# Altium schematic symbol library SchlibLafe.SchLib: 392 symbols (part 1 of 3)
Pins are listed as number, name and electrical type; pins without a type are passive.

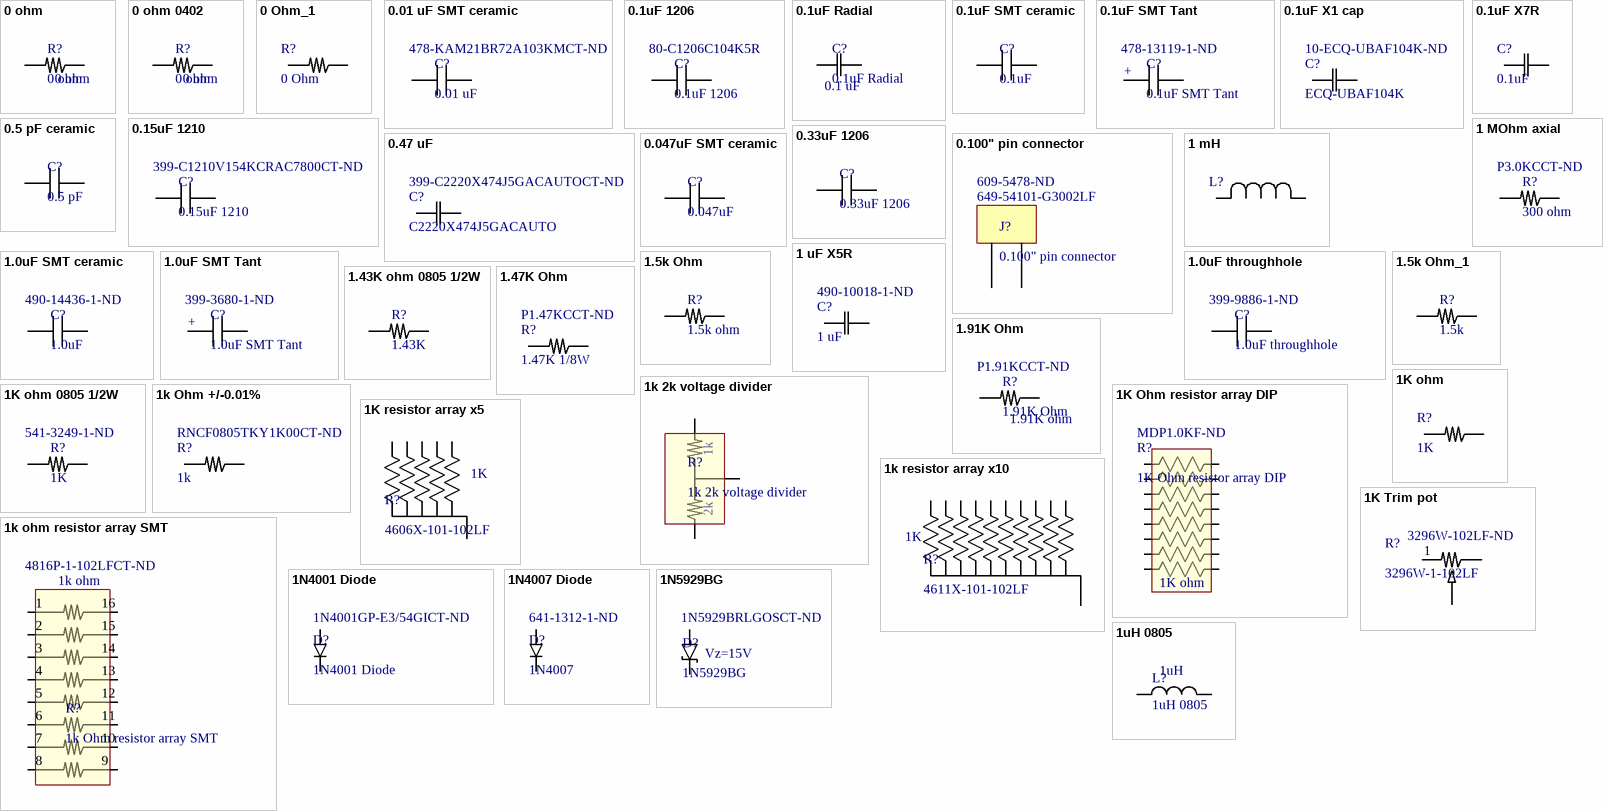
[diagram p0: symbols 0 ohm to 1uH 0805]

## 0 ohm
designator R?
Resistor 0 Ohm 0805; Supplier 1: Digi-Key; Supplier Part Number 1: 541-2827-1-ND
footprint 6-0805 (Chip Resistor; Body 2 x 1.2 mm (LxW typ))
pins: 1, 2

## 0 ohm 0402
designator R?, comment 0 ohm
Resistor 0 Ohm 0402
footprint 0402R-GENERIC
pins: 1, 2

## 0 Ohm_1
designator R?, comment 0 Ohm
0 Ohms Jumper Chip Resistor 0402 (1005 Metric) Automotive AEC-Q200 Thick Film; Mfr_Name: Panasonic; Manufacturer_Part_Number: ERJ-2GE0R00X; Desc_Value: RES SMD 0 OHM JUMPER 1/10W 0402; Notes: DNP; Copyright: Copyright (C) 2023 Ultra Librarian. All rights reserved.; RefDes: RefDes; Type: DEV; Supplier 1: Mouser; Supplier Part Number 1: 667-ERJ-2GE0R00X; Vendor URL: https://www.digikey.com/en/products/detail/panasonic-electronic-components/ERJ-2GE0R00X/146727; Package: 0402; Mounting Type: SMT
footprint 0402 - resistor
pins: 1, 2

## 0.01 uF SMT ceramic
designator C?, comment 0.01 uF  Supplier Part Number 1: 478-KAM21BR72A103KMCT-ND
CAP CER 10000PF 100V X7R 0805; Supplier 1: Digi-Key
footprint 6-0805 (Chip Resistor; Body 2 x 1.2 mm (LxW typ))
pins: 1, 2

## 0.1uF 1206
designator C?  Supplier Part Number 1: 80-C1206C104K5R
Multilayer Ceramic Capacitors MLCC - SMD/SMT 50V 0.1uF X7R 1206 10%; Supplier 1: Mouser
footprint 1206C-GENERIC
pins: 1, 2

## 0.1uF Radial
designator C?  value 0.1 uF
CAP CER 0.1UF 50V X7R RADIAL; Supplier 1: Digi-Key; Supplier Part Number 1: BC1084CT-ND
footprint thruhole cap 0.100"
pins: 1, 2

## 0.1uF SMT ceramic
designator C?, comment 0.1uF
CAP CER 0.1UF 100V X7R 0805; Supplier 1: Digi-Key; Supplier Part Number 1: 490-14408-1-ND
footprint 6-0805 (Chip Resistor; Body 2 x 1.2 mm (LxW typ))
pins: 1, 2

## 0.1uF SMT Tant
designator C?  Supplier Part Number 1: 478-13119-1-ND
CAP TANT 0.1UF 20% 35V 1206; Supplier 1: Digi-Key
footprint 8-1206 - Tant (Chip Resistor; Body 3.1 x 1.6 mm (LxW typ))
pins: 1, 2
text: +

## 0.1uF X1 cap
designator C?, comment ECQ-UBAF104K  Supplier Part Number 1: 10-ECQ-UBAF104K-ND
CAP FILM 0.1UF 10% 300VAC RADIAL; Mfr_Name: Panasonic; Type: DEV; Copyright: Copyright (C) 2023 Ultra Librarian. All rights reserved.; Manufacturer_Part_Number: ECQ-UBAF104K; RefDes: RefDes; Supplier 1: Digi-Key
footprint CAP_ECQUB_STRAIGHT_18.5LX08.0TX16.5H_PAN
pins: 1, 2

## 0.1uF X7R
designator C?, comment 0.1uF
0.1 µF ±10% 50V Ceramic Capacitor X7R 0402 (1005 Metric)Low ESR / C1005X7R1H104K050BB; Mfr_Name: TDK Corporation; Type: DEV; Desc_Value: CAP CER 0.1UF 50V X7R 0402; Manufacturer_Part_Number: C1005X7R1H104K050BB; RefDes: RefDes; Supplier 1: Mouser; Supplier 2: Digi-Key; Supplier Part Number 1: 810-C1005X7R1H104K; Supplier Part Number 2: 445-5932-1-ND; Copyright: Copyright (C) 2023 Ultra Librarian. All rights reserved.; Vendor URL: https://www.digikey.com/en/products/detail/tdk-corporation/C1005X7R1H104K050BB/2443410; Package: 0402; Mounting Type: SMT
footprint 0402 - cap (0402 footprint)
pins: 1, 2

## 0.5 pF ceramic
designator C?, comment 0.5 pF
0.5 pF 50V Ceramic Capacitor 0603 (1608 Metric); Supplier 1: DigiKey; Supplier Part Number 1: 1761-P62CF0R5B5STCT-ND
footprint 3-0603 (Chip Resistor; Body 1.6 x 0.9 mm (LxW typ))
pins: 1, 2

## 0.15uF 1210
designator C?  Supplier Part Number 1: 399-C1210V154KCRAC7800CT-ND
CAP CER 0.15UF 500V X7R 1210; Supplier 1: Digi-Key
footprint 1210-GENERIC
pins: 1, 2

## 0.33uF 1206
designator C?
CAP CER 0.33UF 100V X7R 1206; Supplier 1: Digi-Key; Supplier Part Number 1: 445-4464-1-ND
footprint 1206C-GENERIC
pins: 1, 2

## 0.47 uF
designator C?, comment C2220X474J5GACAUTO  Supplier Part Number 1: 399-C2220X474J5GACAUTOCT-ND
0.47 µF ±5% 50V Ceramic Capacitor C0G, NP0 2220 (5750 Metric); Mfr_Name: Kemet; Type: DEV; Desc_Value: CAP CER 0.47UF 50V C0G/NP0 2220; Copyright: Copyright (C) 2023 Ultra Librarian. All rights reserved.; Manufacturer_Part_Number: C2220X474J5GACAUTO; RefDes: RefDes; Supplier 1: Digi-Key; Vendor URL: https://www.digikey.com/en/products/detail/kemet/C2220X474J5GACAUTO/11676827; Package: 2220; Mounting Type: SMT
footprint CAPC665540_185N_KEM
pins: 1, 2

## 0.047uF SMT ceramic
designator C?, comment 0.047uF
CAP CER 0.047UF 100V X7R 0805; Supplier 1: Digi-Key; Supplier Part Number 1: 1276-6815-1-ND
footprint 6-0805 (Chip Resistor; Body 2 x 1.2 mm (LxW typ))
pins: 1, 2

## 0.100" pin connector
designator J?  Supplier Part Number 1: 649-54101-G3002LF  Supplier Part Number 2: 609-5478-ND
CONN HEADER VERT 2POS 2.54MM; Supplier 1: Mouser; Supplier 2: Digi-Key
footprint 2-pin 0.100" (2-pin connector)
pins: 1 (power), 2 (power)

## 1 mH
designator L?
1 mH Unshielded Drum Core, Wirewound Inductor 100 mA 13Ohm 1210 (3225 Metric); Mfr_Name: Vishay; Manufacturer_Part_Number: IHLP2020CZER3R3M01; Type: DEV; Copyright: Copyright (C) 2023 Ultra Librarian. All rights reserved.; Digi-Key_Part_Number_1: 541-1269-1-ND; Digi-Key_Part_Number_2: 541-1269-2-ND; Digi-Key_Part_Number_3: 541-1269-6-ND; RefDes: RefDes; Supplier 1: Digi-Key; Supplier Part Number 1: 587-3214-1-ND
footprint 1210-GENERIC
pins: 1, 2

## 1 MOhm axial
designator R?, comment 300 ohm  Supplier Part Number 1: P3.0KCCT-ND
RES 1 MOHM 5% 1/8W axial; Supplier 1: Digi-Key
footprint thruhole_resistor
pins: 1, 2

## 1 uF X5R
designator C?, comment 1 uF  Supplier Part Number 1: 490-10018-1-ND
1 µF ±20% 25V Ceramic Capacitor X5R 0402 (1005 Metric); Mfr_Name: Murata; Manufacturer_Part_Number: GRM155R61E105MA12D; Type: DEV; Desc_Value: CAP CER 1UF 25V X5R 0402; Copyright: Copyright (C) 2023 Ultra Librarian. All rights reserved.; RefDes: RefDes; Vendor URL: https://www.digikey.com/en/products/detail/murata-electronics/GRM155R61E105MA12D/4905141; Package: 0402; Mounting Type: SMT; Supplier 1: Digi-Key
footprint 0402 - cap (0402 footprint)
pins: 1, 2

## 1.0uF SMT ceramic
designator C?, comment 1.0uF  Supplier Part Number 1: 490-14436-1-ND
CAP CER 1UF 100V X7S 0805; Supplier 1: Digi-Key
footprint 6-0805 (Chip Resistor; Body 2 x 1.2 mm (LxW typ))
pins: 1, 2

## 1.0uF SMT Tant
designator C?  Supplier Part Number 1: 399-3680-1-ND
CAP TANT 1UF 10% 25V 1206; Supplier 1: Digi-Key
footprint 8-1206 - Tant (Chip Resistor; Body 3.1 x 1.6 mm (LxW typ))
pins: 1, 2
text: +

## 1.0uF throughhole
designator C?  Supplier Part Number 1: 399-9886-1-ND
1 µF ±10% 50V Ceramic Capacitor X7R Radial; Supplier 1: Digi-Key
footprint throughhole0.225" (0.255" wide, 0.045" hole diameter)
pins: 1, 2

## 1.5k Ohm
designator R?, comment 1.5k ohm
RES SMD 1.5K OHM 0.5% 1/8W 0805; Supplier 1: Digi-Key; Supplier Part Number 1: RMCF0805FT1K50CT-ND
footprint 6-0805 (Chip Resistor; Body 2 x 1.2 mm (LxW typ))
pins: 1, 2

## 1.5k Ohm_1
designator R?, comment 1.5k
1.5 kOhms ±1% 0.1W, 1/10W Chip Resistor 0402 (1005 Metric) Automotive AEC-Q200 Thick Film; Manufacturer_Part_Number: ERJ2RKF1501X; Mfr_name: Panasonic Electronic Components; MF: {'manufacturer': u'Panasonic Electronic'}; Desc_Value: RES SMD 1.5K OHM 1% 1/10W 0402; Package: 0402; Price: None; Value: *; Availability: Unavailable; Supplier 1: Mouser; Supplier Part Number 1: 667-ERJ-2RKF1501X; Vendor URL: https://www.digikey.com/en/products/detail/panasonic-electronic-components/ERJ-2RKF1501X/192060; Mounting Type: SMT
footprint RES_ERJ2RKF1501X
pins: 1, 2

## 1.43K ohm 0805 1/2W
designator R?, comment 1.43K
RES SMD 1.43K OHM 0.5% 1/4W 0805; Supplier 1: Digi-Key; Supplier Part Number 1: P21035CT-ND
footprint 6-0805 (Chip Resistor; Body 2 x 1.2 mm (LxW typ))
pins: 1, 2

## 1.47K Ohm
designator R?, comment 1.47K 1/8W  Supplier Part Number 1: P1.47KCCT-ND
RES SMD 1.47K OHM 1% 1/8W 0805; Manufacturer_Part_Number: RNCP0805FTD1K00; Vendor: Stackpole International; Built_By: EMA_UL_Team; Copyright: Copyright (C) 2018 Accelerated Designs. All rights reserved; RefDes: RefDes; Type: DEV; Value: Value; Supplier 1: Digi-Key
footprint 6-0805 (Chip Resistor; Body 2 x 1.2 mm (LxW typ))
pins: 1, 2

## 1.91K Ohm
designator R?  Supplier Part Number 1: P1.91KCCT-ND
RES SMD 1.91K OHM 1% 1/8W 0805; Supplier 1: Digi-Key
footprint 6-0805 (Chip Resistor; Body 2 x 1.2 mm (LxW typ))
pins: 1, 2
text: 1.91K ohm

## 1k 2k voltage divider
designator R?
1k, 2k Ohm ±0.1% 100mW Power Per Element Voltage Divider 2 Resistor Network/Array ±25ppm/°C TO-236-3, SC-59, SOT-23-3; Supplier 1: Digi-Key; Supplier Part Number 1: MPMT-1K/2KCT-ND
footprint SOT23-123
pins: 1, 1, 2, 2, 3
text: 1k; 2k

## 1K ohm
designator R?, comment 1K
RES 1K OHM 1% 1/4W 0805; Manufacturer_Part_Number: RNCP0805FTD1K00; Vendor: Stackpole International; Built_By: EMA_UL_Team; Copyright: Copyright (C) 2018 Accelerated Designs. All rights reserved; RefDes: RefDes; Type: DEV; Value: Value; Supplier 1: Digi-Key; Supplier Part Number 1: RNCP0805FTD1K00CT-ND
footprint 6-0805 (Chip Resistor; Body 2 x 1.2 mm (LxW typ))
pins: 1, 2

## 1K ohm 0805 1/2W
designator R?, comment 1K  Supplier Part Number 1: 541-3249-1-ND
RES 1K OHM 1% 1/2W 0805; Supplier 1: Digi-Key
footprint 6-0805 (Chip Resistor; Body 2 x 1.2 mm (LxW typ))
pins: 1, 2

## 1k Ohm +/-0.01%
designator R?, comment 1k  Supplier Part Number 1: RNCF0805TKY1K00CT-ND
1k Ohms ±0.01% 0.125W, 1/8W Chip Resistor 0805+/-5ppm/C; Manufacturer_Part_Number: RNCP0805FTD1K00; Vendor: Stackpole International; Built_By: EMA_UL_Team; Copyright: Copyright (C) 2018 Accelerated Designs. All rights reserved; RefDes: RefDes; Type: DEV; Value: Value; Supplier 1: Digi-Key
footprint 6-0805 (Chip Resistor; Body 2 x 1.2 mm (LxW typ))
pins: 1, 2

## 1K Ohm resistor array DIP
designator R?  Supplier Part Number 1: MDP1.0KF-ND
RES ARRAY 8 RES 1K OHM 16DIP; Manufacturer_Part_Number: 4116R-1-121LF; Vendor: Bourns Electronics; Built_By: EMA_UL_Team; Copyright: Copyright (C) 2018 Accelerated Designs. All rights reserved; RefDes: RefDes; Type: DEV; Value: Value; Supplier 1: Digi-Key
footprint DIP16_IL
pins: 1, 2, 3, 4, 5, 6, 7, 8, 9, 10, 11, 12, 13, 14, 15, 16
text: 1K ohm

## 1k ohm resistor array SMT
designator R?, comment 1k Ohm resistor array SMT  Supplier Part Number 1: 4816P-1-102LFCT-ND
RES ARRAY 8 RES 1K OHM 16SOIC; Supplier 1: Digi-Key
footprint SOIC16_4X10_ONS
pins: 1, 2, 3, 4, 5, 6, 7, 8, 9, 10, 11, 12, 13, 14, 15, 16
text: 1k ohm

## 1K resistor array x5
designator R?, comment 4606X-101-102LF
RES ARRAY 5 RES 1K OHM 6SIP; Mfr_Name: Bourns Electronics; Copyright: Copyright (C) 2022 Ultra Librarian. All rights reserved.; Manufacturer_Part_Number: 4606X-101-102LF; Digi-Key_Part_Number_1: https://www.digikey.com/en/products/detail/bourns-inc/4606X-101-102LF/1088959; RefDes: RefDes; Type: DEV; Supplier 1: Digi-Key; Supplier Part Number 1: 4606X-1-102LF-ND
footprint BO_4606X
pins: 1, 2, 3, 4, 5, 6
text: 1K

## 1k resistor array x10
designator R?, comment 4611X-101-102LF
RES ARRAY 10 RES 1K OHM 11SIP; Mfr_Name: Bourns Electronics; Copyright: Copyright (C) 2022 Ultra Librarian. All rights reserved.; Manufacturer_Part_Number: 4611X-101-102LF; Digi-Key_Part_Number_1: 4611X-101-102LF-ND; RefDes: RefDes; Type: DEV; Supplier 1: Digi-Key; Supplier Part Number 1: https://www.digikey.com/en/products/detail/bourns-inc/4611X-101-102LF/3787977
footprint BO_4611X
pins: 1, 2, 3, 4, 5, 6, 7, 8, 9, 10, 11
text: 1K

## 1K Trim pot
designator R?, comment 3296W-1-102LF  Supplier Part Number 1: 3296W-102LF-ND
1 kOhms 0.5W, 1/2W PC Pins Through Hole Trimmer Potentiometer Cermet 25.0 Turn Top Adjustment; Mfr_Name: Bourns Electronics; Copyright: Copyright (C) 2021 Ultra Librarian. All rights reserved.; Manufacturer_Part_Number: 3296W-1-102LF; Digi-Key_Part_Number_1: 3296W-102LF-ND; RefDes: RefDes; Type: DEV; Supplier 1: Digi-Key
footprint POT_3296W
pins: 1, 2, 3

## 1N4001 Diode
designator D?  Supplier Part Number 1: 1N4001GP-E3/54GICT-ND
DIODE GEN PURP 50V 1A DO204AL; Supplier 1: Digi-Key
footprint 1N400X
pins: 1, 2

## 1N4007 Diode
designator D?, comment 1N4007  Supplier Part Number 1: 641-1312-1-ND
DIODE GEN PURP 1KV 1A DO41; Supplier 1: Digi-Key
footprint 1N400X
pins: 1, 2

## 1N5929BG
designator D?  Supplier Part Number 1: 1N5929BRLGOSCT-ND
DIODE ZENER 15V 3W AXIAL; Supplier 1: Digi-Key
footprint 2-pin 0.250 (2-pin diode)
pins: 1, 2
text: Vz=15V

## 1uH 0805
designator L?
FIXED IND 1UH 2.7A 65 MOHM SMD; Supplier 1: Mouser; Supplier 2: Digi-Key; Supplier Part Number 1: 576-LPWI201208S1R0T; Supplier Part Number 2: F12088CT-ND
footprint 6-0805 (Chip Resistor; Body 2 x 1.2 mm (LxW typ))
pins: 1, 2
text: 1uH

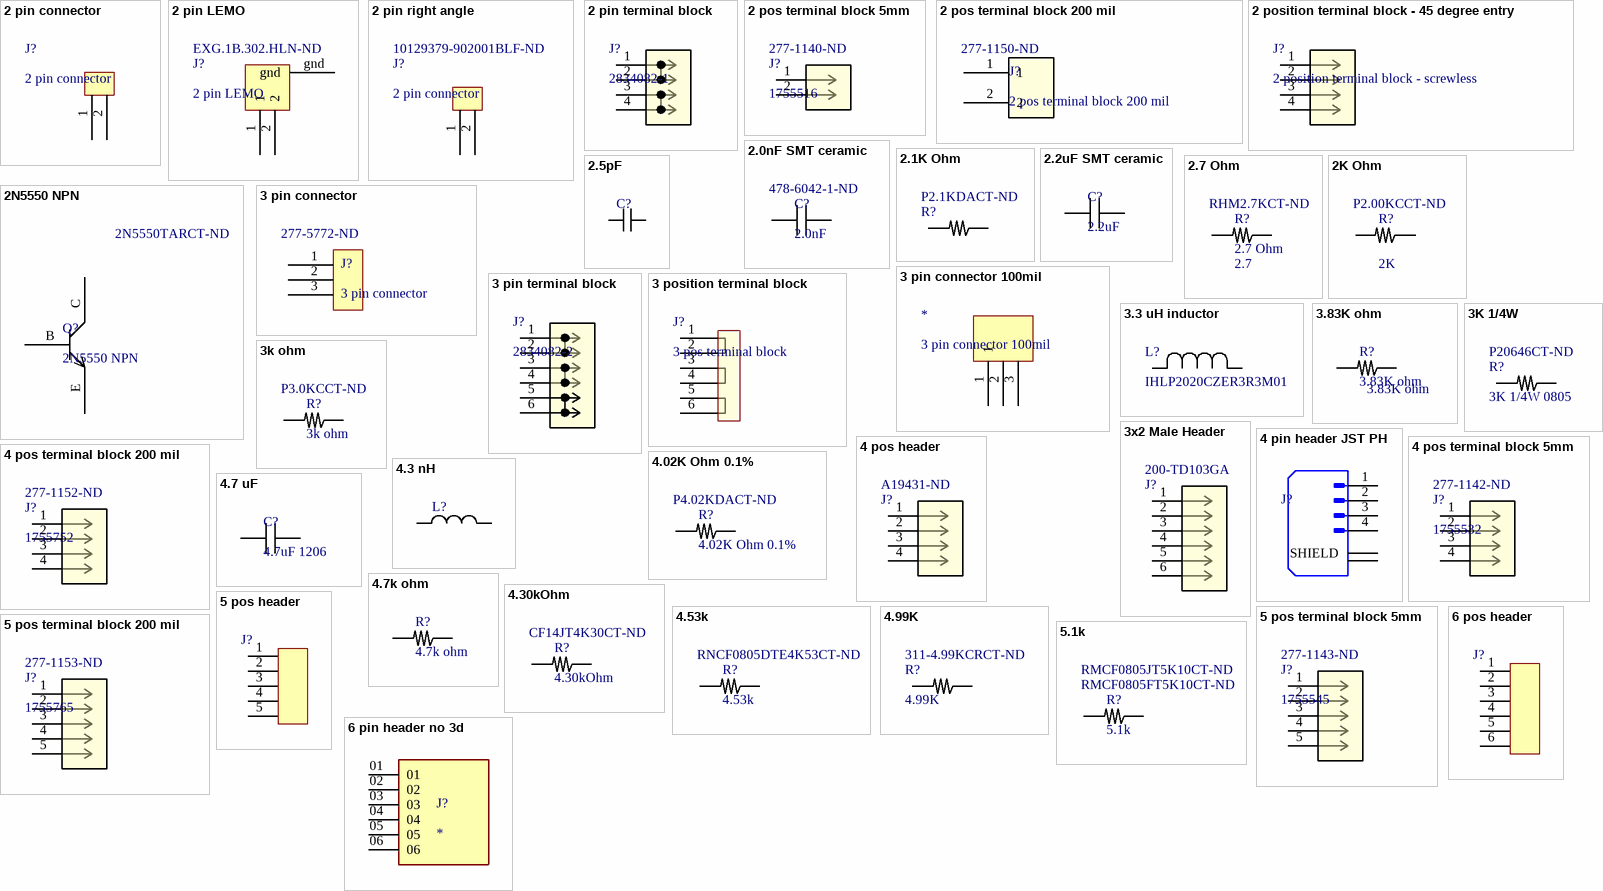
[diagram p1: symbols 2 pin connector to 6 pos header]

## 2 pin connector
designator J?
CONN HEADER VERT 2POS 2.54MM; Supplier 1: Digi-Key; Supplier Part Number 1: 2057-PH1-02-UA-ND
footprint throughhole0.100" (0.100" wide, 0.045" hole diameter)
pins: 1, 2

## 2 pin LEMO
designator J?  Supplier Part Number 1: EXG.1B.302.HLN-ND
2 Position Circular Connector Receptacle, Female Sockets Solder; Supplier 1: Digi-Key
footprint LEMO EXG-1B-302 (2 pin LEMO right angle panel mount)
pins: 1, 2, gnd

## 2 pin right angle
designator J?, comment 2 pin connector  Supplier Part Number 1: 10129379-902001BLF-ND
Connector Header Through Hole, Right Angle 2 position 0.100" (2.54mm); Supplier 1: Digi-Key
footprint 2 position thru hole 0.100" - right angle
pins: 1, 2

## 2 pin terminal block
designator J?, comment 2834082-1
TERM BLK 2POS SIDE ENTRY 5MM PCB; Mfr_Name: TE Connectivity; Notes: Align Pin 1 to silkscreen dot; Copyright: Copyright (C) 2023 Ultra Librarian. All rights reserved.; Manufacturer_Part_Number: 2834082-1; Digi-Key_Part_Number_1: A124223-ND; RefDes: RefDes; Type: DEV; Supplier 1: Digi-Key; Supplier 2: Mouser; Desc_Value: TERM BLK 2POS SIDE ENTRY 5MM PCB; Supplier Part Number 2: 571-2834082-1; Supplier Part Number 1: A124223-ND; Vendor URL: https://www.digikey.com/en/products/detail/te-connectivity-amp-connectors/2834082-1/6012670; Package: 4 pin; Mounting Type: Thru hole
footprint CONN4_2834082-1_TEC
pins: 1, 2, 3, 4

## 2 pos terminal block 5mm
designator J?, comment 1755516  Supplier Part Number 1: 277-1140-ND
2 Position Terminal Block Header, Male Pins, Shrouded (4 Side) 0.197" (5.00mm) Vertical Through Hole; Built_By: EMA_Anthony; Vendor: Phoenix Contact; article_description: MSTBVA 2,5/ 2-G; Plug_system: CLASSIC COMBICON; Producttyp: PCB headers; contact_type: male connector; Product_family: MSTBVA 2,5/..-G; pitch_(mm): 5; Number_of_position_per_row: 2; number_of_rows: 1; solder_pin_length_(mm): 3.9; SourceLibrary: Phoenix_Contact_2020-03-06; Manufacturer_Part_Number: 1755516; Copyright: Copyright (C) 2018 Accelerated Designs. All rights reserved; number_of_potentials: 2; number_of_connection: 2; number_of_solder_pins_per_potentials: 1; RefDes: RefDes; Type: DEV; Supplier 1: Digi-Key
footprint CONN_1755516_PXC
pins: 1, 2

## 2 pos terminal block 200 mil
designator J?  Supplier Part Number 1: 277-1150-ND
2 Position Terminal Block Header, Male Pins, Shrouded (4 Side) 0.200" (5.08mm) Vertical Through Hole; Supplier 1: Digi-Key
footprint CONN2_1755736_PX
pins: 1, 2

## 2 position terminal block - 45 degree entry
designator J?, comment 2 position terminal block - screwless
2 Position Wire to Board Terminal Block 45° (135°) Angle with Board 0.197" (5.00mm) Through Hole; Mfr_Name: Wurth Electronics; Manufacturer_Part_Number: 691408720002B; Copyright: Copyright (C) 2023 Ultra Librarian. All rights reserved.; Digi-Key_Part_Number_1: 732-691408720002B-ND; RefDes: RefDes; Type: DEV; Supplier 1: Digi-Key; Supplier Part Number 1: 732-691408720002B-ND
footprint CONN_69140872_WRE
pins: 1, 2, 3, 4

## 2.0nF SMT ceramic
designator C?, comment 2.0nF  Supplier Part Number 1: 478-6042-1-ND
CAP CER 2000PF 100V X7R 0805; Supplier 1: Digi-Key
footprint 6-0805 (Chip Resistor; Body 2 x 1.2 mm (LxW typ))
pins: 1, 2

## 2.1K Ohm
designator R?, comment Supplier Part Number 1: P2.1KDACT-ND  (hidden comment: 2.1K)
RES 2.1K OHM 0.1% 1/8W 0805; Manufacturer_Part_Number: RNCP0805FTD1K00; Vendor: Stackpole International; Built_By: EMA_UL_Team; Copyright: Copyright (C) 2018 Accelerated Designs. All rights reserved; RefDes: RefDes; Type: DEV; Value: Value; Supplier 1: Digi-Key
footprint 6-0805 (Chip Resistor; Body 2 x 1.2 mm (LxW typ))
pins: 1, 2

## 2.2uF SMT ceramic
designator C?, comment 2.2uF
CAP CER 2.2UF 25V X7R 0805; Supplier 1: Digi-Key; Supplier Part Number 1: 399-C0805X225K3RACAUTOCT-ND
footprint 6-0805 (Chip Resistor; Body 2 x 1.2 mm (LxW typ))
pins: 1, 2

## 2.5pF
designator C?
2.5 pF ±0.1pF 50V Ceramic Capacitor C0G, NP0 0402 (1005 Metric); MF: {'manufacturer': u'Yageo'}; MP: CC0402BRNPO9BN2R5; Package: None; Price: None; Value: *; Availability: Unavailable; Supplier 1: Digi-Key; Supplier Part Number 1: 311-3704-1-ND
footprint CAPC1005X55N
pins: 1, 2

## 2.7 Ohm
designator R?  R: 2.7  Supplier Part Number 1: RHM2.7KCT-ND
RES SMD 2.7 OHM 5% 0.4W 0805; Supplier 1: Digi-Key
simulation model Model Name (Model Description)
footprint 6-0805 (Chip Resistor; Body 2 x 1.2 mm (LxW typ))
pins: 1, 2

## 2K Ohm
designator R?  R: 2K  Supplier Part Number 1: P2.00KCCT-ND  (hidden comment: 2K Ohm)
RES SMD 2K OHM 1% 1/8W 0805; Value: 2000; Supplier 1: Digi-Key
simulation model Model Name (Model Description)
footprint 6-0805 (Chip Resistor; Body 2 x 1.2 mm (LxW typ))
pins: 1, 2

## 2N5550 NPN
designator Q?  Supplier Part Number 1: 2N5550TARCT-ND
Bipolar (BJT) Transistor NPN 140 V 600 mA 300MHz 625 mW Through Hole TO-92-3; Supplier 1: Digi-Key
footprint 3-pin 0.100" - NPN (TO-92 0.100")
pins: B 2, C 3, E 1

## 3 pin connector
designator J?  Supplier Part Number 1: 277-5772-ND
3 Position Terminal Block Header, Male Pins, Shrouded (4 Side) 0.200" (5.08mm) 90°, Right Angle Through Hole; Supplier 1: Digi-Key
footprint 3-pin connector
pins: 1, 2, 3

## 3 pin connector 100mil
designator *
footprint throughhole0.100"-3hole (0.100" wide, 0.045" hole diameter)
pins: 1, 2, 3

## 3 pin terminal block
designator J?, comment 2834082-2
TERM BLK 3POS SIDE ENTRY 5MM PCB; Mfr_Name: TE Connectivity; Manufacturer_Part_Number: 2834082-1; Copyright: Copyright (C) 2023 Ultra Librarian. All rights reserved.; Digi-Key_Part_Number_1: A124223-ND; RefDes: RefDes; Type: DEV; Supplier 1: Digi-Key; Supplier Part Number 1: A124224-ND
footprint CONN6_2834082-2_TEC
pins: 1, 2, 3, 4, 5, 6

## 3 position terminal block
designator J?, comment 3 pos terminal block
3 Position Wire to Board Terminal Block 45° (135°) Angle with Board 0.200" (5.08mm) Through Hole; Mfr_Name: Wurth Electronics; Manufacturer_Part_Number: 691408520003B; Copyright: Copyright (C) 2023 Ultra Librarian. All rights reserved.; Digi-Key_Part_Number_1: 732-691408520003B-ND; RefDes: RefDes; Type: DEV; Supplier 1: Digi-Key; Supplier Part Number 1: 732-691408520003B-ND
footprint CONN6_520003B_WRE
pins: 1, 2, 3, 4, 5, 6

## 3.3 uH inductor
designator L?, comment IHLP2020CZER3R3M01
FIXED IND 3.3UH 5A 54.7 MOHM SMD; Mfr_Name: Vishay; Type: DEV; Copyright: Copyright (C) 2023 Ultra Librarian. All rights reserved.; Manufacturer_Part_Number: IHLP2020CZER3R3M01; Digi-Key_Part_Number_1: 541-1269-1-ND; Digi-Key_Part_Number_2: 541-1269-2-ND; Digi-Key_Part_Number_3: 541-1269-6-ND; RefDes: RefDes; Supplier 1: Digi-Key; Supplier Part Number 1: 541-1269-6-ND
footprint IND_IHLP-2020CZ
pins: 1, 2

## 3.83K ohm
designator R?
RES 3.83K OHM 0.1% 1/8W 0805; Supplier 1: Digi-Key; Supplier Part Number 1: P3.83KDACT-ND
footprint 6-0805 (Chip Resistor; Body 2 x 1.2 mm (LxW typ))
pins: 1, 2

## 3K 1/4W
designator R?, comment 3K 1/4W 0805  Supplier Part Number 1: P20646CT-ND
RES SMD 3K OHM 0.1% 1/4W 0805; Manufacturer_Part_Number: RNCP0805FTD1K00; Vendor: Stackpole International; Built_By: EMA_UL_Team; Copyright: Copyright (C) 2018 Accelerated Designs. All rights reserved; RefDes: RefDes; Type: DEV; Value: Value; Supplier 1: Digi-Key
footprint 6-0805 (Chip Resistor; Body 2 x 1.2 mm (LxW typ))
pins: 1, 2

## 3k ohm
designator R?  Supplier Part Number 1: P3.0KCCT-ND
RES SMD 3K OHM 1% 1/8W 0805; Supplier 1: Digi-Key
footprint 6-0805 (Chip Resistor; Body 2 x 1.2 mm (LxW typ))
pins: 1, 2

## 3x2 Male Header
designator J?, comment Supplier Part Number 1: 200-TD103GA  (hidden comment: TD-103-G-A)
6 Position Header Connector Male Pin Gold; Mfr_Name: Samtec Inc; Copyright: Copyright (C) 2023 Ultra Librarian. All rights reserved.; Manufacturer_Part_Number: TD-103-G-A; RefDes: RefDes; Type: DEV; Supplier 1: Mouser
footprint CON6_2X3_TU_HTS_SAI
pins: 1, 2, 3, 4, 5, 6

## 4 pin header JST PH
designator J?
Connector Header Surface Mount 4 position 0.079" (2.00mm) / mate: https://www.adafruit.com/product/3955; Manufacturer_Part_Number: B4B-PH-SM4-TBT; Mfr_name: JST; Desc_Value: CONN HEADER SMD 4POS 2MM; Notes: Pin 1 to dot; Availability: In Stock; Value: *; Check_prices: https://www.snapeda.com/parts/B4B-PH-SM4-TBT/JST/view-part/?ref=eda; Package: 4 position; Price: None; SnapEDA_Link: https://www.snapeda.com/parts/B4B-PH-SM4-TBT/JST/view-part/?ref=snap; Purchase-URL: https://pricing.snapeda.com/search/part/B4B-PH-SM4-TBT/?ref=eda; Supplier 1: Digi-Key; Supplier Part Number 1: 455-B4B-PH-SM4-TBTCT-ND; Vendor URL: https://www.digikey.com/en/products/detail/jst-sales-america-inc/B4B-PH-SM4-TBT/2217689; Mounting Type: SMT
footprint JST_B4B-PH-SM4-TBT
pins: 1, 2, 3, 4, SH1 SHIELD, SH2 SHIELD

## 4 pos header
designator J?  Supplier Part Number 1: A19431-ND
CONN HEADER VERT 4POS 2.54MM - MTA-100 series; Manufacturer_Part_Number: 1755532; Built_By: EMA_Kyle; Vendor: Phoenix Contact; SourceLibrary: Phoenix_Contact_2018-12-18; Copyright: Copyright (C) 2018 Accelerated Designs. All rights reserved; RefDes: RefDes; Type: DEV; Supplier 1: Digi-Key
footprint 4 pin header
pins: 1, 2, 3, 4

## 4 pos terminal block 5mm
designator J?, comment 1755532  Supplier Part Number 1: 277-1142-ND
4 Position Terminal Block Header, Male Pins, Shrouded (4 Side) 0.197" (5.00mm) Vertical Through Hole; Built_By: EMA_Kyle; Vendor: Phoenix Contact; SourceLibrary: Phoenix_Contact_2018-12-18; Copyright: Copyright (C) 2018 Accelerated Designs. All rights reserved; Manufacturer_Part_Number: 1755532; RefDes: RefDes; Type: DEV; Supplier 1: Digi-Key
footprint CONN_1755532_PXC
pins: 1, 2, 3, 4

## 4 pos terminal block 200 mil
designator J?, comment 1755752  Supplier Part Number 1: 277-1152-ND
4 Position Terminal Block Header, Male Pins, Shrouded (4 Side) 0.200" (5.08mm) Vertical Through Hole; Manufacturer_Part_Number: 1755532; Built_By: EMA_Kyle; Vendor: Phoenix Contact; SourceLibrary: Phoenix_Contact_2018-12-18; Copyright: Copyright (C) 2018 Accelerated Designs. All rights reserved; RefDes: RefDes; Type: DEV; Supplier 1: Digi-Key
footprint CONN2_1755752 (4 position 200 mil)
pins: 1, 2, 3, 4

## 4.02K Ohm 0.1%
designator R?  Supplier Part Number 1: P4.02KDACT-ND
RES 4.02K OHM 0.1% 1/8W 0805; Supplier 1: Digi-Key
footprint 6-0805 (Chip Resistor; Body 2 x 1.2 mm (LxW typ))
pins: 1, 2

## 4.3 nH
designator L?
4.3 nH Unshielded Drum Core, Wirewound Inductor 2.8 A 40mOhm Max 0603 (1608 Metric); Supplier 1: Mouser; Supplier Part Number 1: 994-0603DC-4N3XGRW
footprint 3-0603 (Chip Resistor; Body 1.6 x 0.9 mm (LxW typ))
pins: 1, 2

## 4.7 uF
designator C?, comment 4.7uF 1206
4.7 µF ±10% 50V Ceramic Capacitor X7R 1206 (3216 Metric); Supplier 1: Digi-Key; Supplier Part Number 1: 490-6521-1-ND
footprint 8-1206 (Chip Resistor; Body 3.1 x 1.6 mm (LxW typ))
pins: 1, 2

## 4.7k ohm
designator R?
Resistor 4.7k Ohm 0805; Supplier 1: Digi-Key; Supplier Part Number 1: 541-CRCW08054K70FKTACT-ND
footprint 6-0805 (Chip Resistor; Body 2 x 1.2 mm (LxW typ))
pins: 1, 2

## 4.30kOhm
designator R?  Supplier Part Number 1: CF14JT4K30CT-ND
RES 4.3K OHM 5% 1/4W AXIAL; Supplier 1: Digi-Key
footprint thruhole resistor
pins: 1, 2

## 4.53k
designator R?  Supplier Part Number 1: RNCF0805DTE4K53CT-ND
Resistor 4.53K Ohm 0805; Supplier 1: Digi-Key
footprint 6-0805 (Chip Resistor; Body 2 x 1.2 mm (LxW typ))
pins: 1, 2

## 4.99K
designator R?  Supplier Part Number 1: 311-4.99KCRCT-ND
1K resistor 0805; Manufacturer_Part_Number: RNCP0805FTD1K00; Vendor: Stackpole International; Built_By: EMA_UL_Team; Copyright: Copyright (C) 2018 Accelerated Designs. All rights reserved; RefDes: RefDes; Type: DEV; Value: Value; Supplier 1: Digi-Key
footprint 6-0805 (Chip Resistor; Body 2 x 1.2 mm (LxW typ))
pins: 1, 2

## 5 pos header
designator J?
5 pos header; Manufacturer_Part_Number: 1755532; Built_By: EMA_Kyle; Vendor: Phoenix Contact; SourceLibrary: Phoenix_Contact_2018-12-18; Copyright: Copyright (C) 2018 Accelerated Designs. All rights reserved; RefDes: RefDes; Type: DEV; Supplier 1: Digi-Key; Supplier Part Number 1: A30789-ND
footprint 5 pin header
pins: 1, 2, 3, 4, 5

## 5 pos terminal block 5mm
designator J?, comment 1755545  Supplier Part Number 1: 277-1143-ND
5 pos terminal block 5mm; Built_By: EMA_Kyle; Vendor: Phoenix Contact; SourceLibrary: Phoenix_Contact_2018-12-18; Copyright: Copyright (C) 2018 Accelerated Designs. All rights reserved; Manufacturer_Part_Number: 1755545; RefDes: RefDes; Type: DEV; Supplier 1: Digi-Key
footprint CONN_1755545_PXC
pins: 1, 2, 3, 4, 5

## 5 pos terminal block 200 mil
designator J?, comment 1755765  Supplier Part Number 1: 277-1153-ND
5 pos terminal block 200 mil; Manufacturer_Part_Number: 1755545; Built_By: EMA_Kyle; Vendor: Phoenix Contact; SourceLibrary: Phoenix_Contact_2018-12-18; Copyright: Copyright (C) 2018 Accelerated Designs. All rights reserved; RefDes: RefDes; Type: DEV; Supplier 1: Digi-Key
footprint CONN_1755765 (5 position 200 mil)
pins: 1, 2, 3, 4, 5

## 5.1k
designator R?  Supplier Part Number 1: RMCF0805FT5K10CT-ND  Supplier Part Number 2: RMCF0805JT5K10CT-ND
Resistor 5.1K Ohm 0805; Supplier 1: Digi-Key; Supplier 2: Digi-Key
footprint 6-0805 (Chip Resistor; Body 2 x 1.2 mm (LxW typ))
pins: 1, 2

## 6 pin header no 3d
designator J?
MF: Samtec Inc.; MP: TSW-106-07-G-S; Value: *; Availability: Unavailable; Price: None; Package: None
footprint SAMTEC_TSW-106-07-G-S
pins: 01, 02, 03, 04, 05, 06

## 6 pos header
designator J?
CONN HEADER VERT 6POS 2.54MM - MTA100 Series; Manufacturer_Part_Number: 1755532; Built_By: EMA_Kyle; Vendor: Phoenix Contact; SourceLibrary: Phoenix_Contact_2018-12-18; Copyright: Copyright (C) 2018 Accelerated Designs. All rights reserved; RefDes: RefDes; Type: DEV; Supplier 1: Digi-Key; Supplier Part Number 1: A19433-ND
footprint 6 pin header
pins: 1, 2, 3, 4, 5, 6

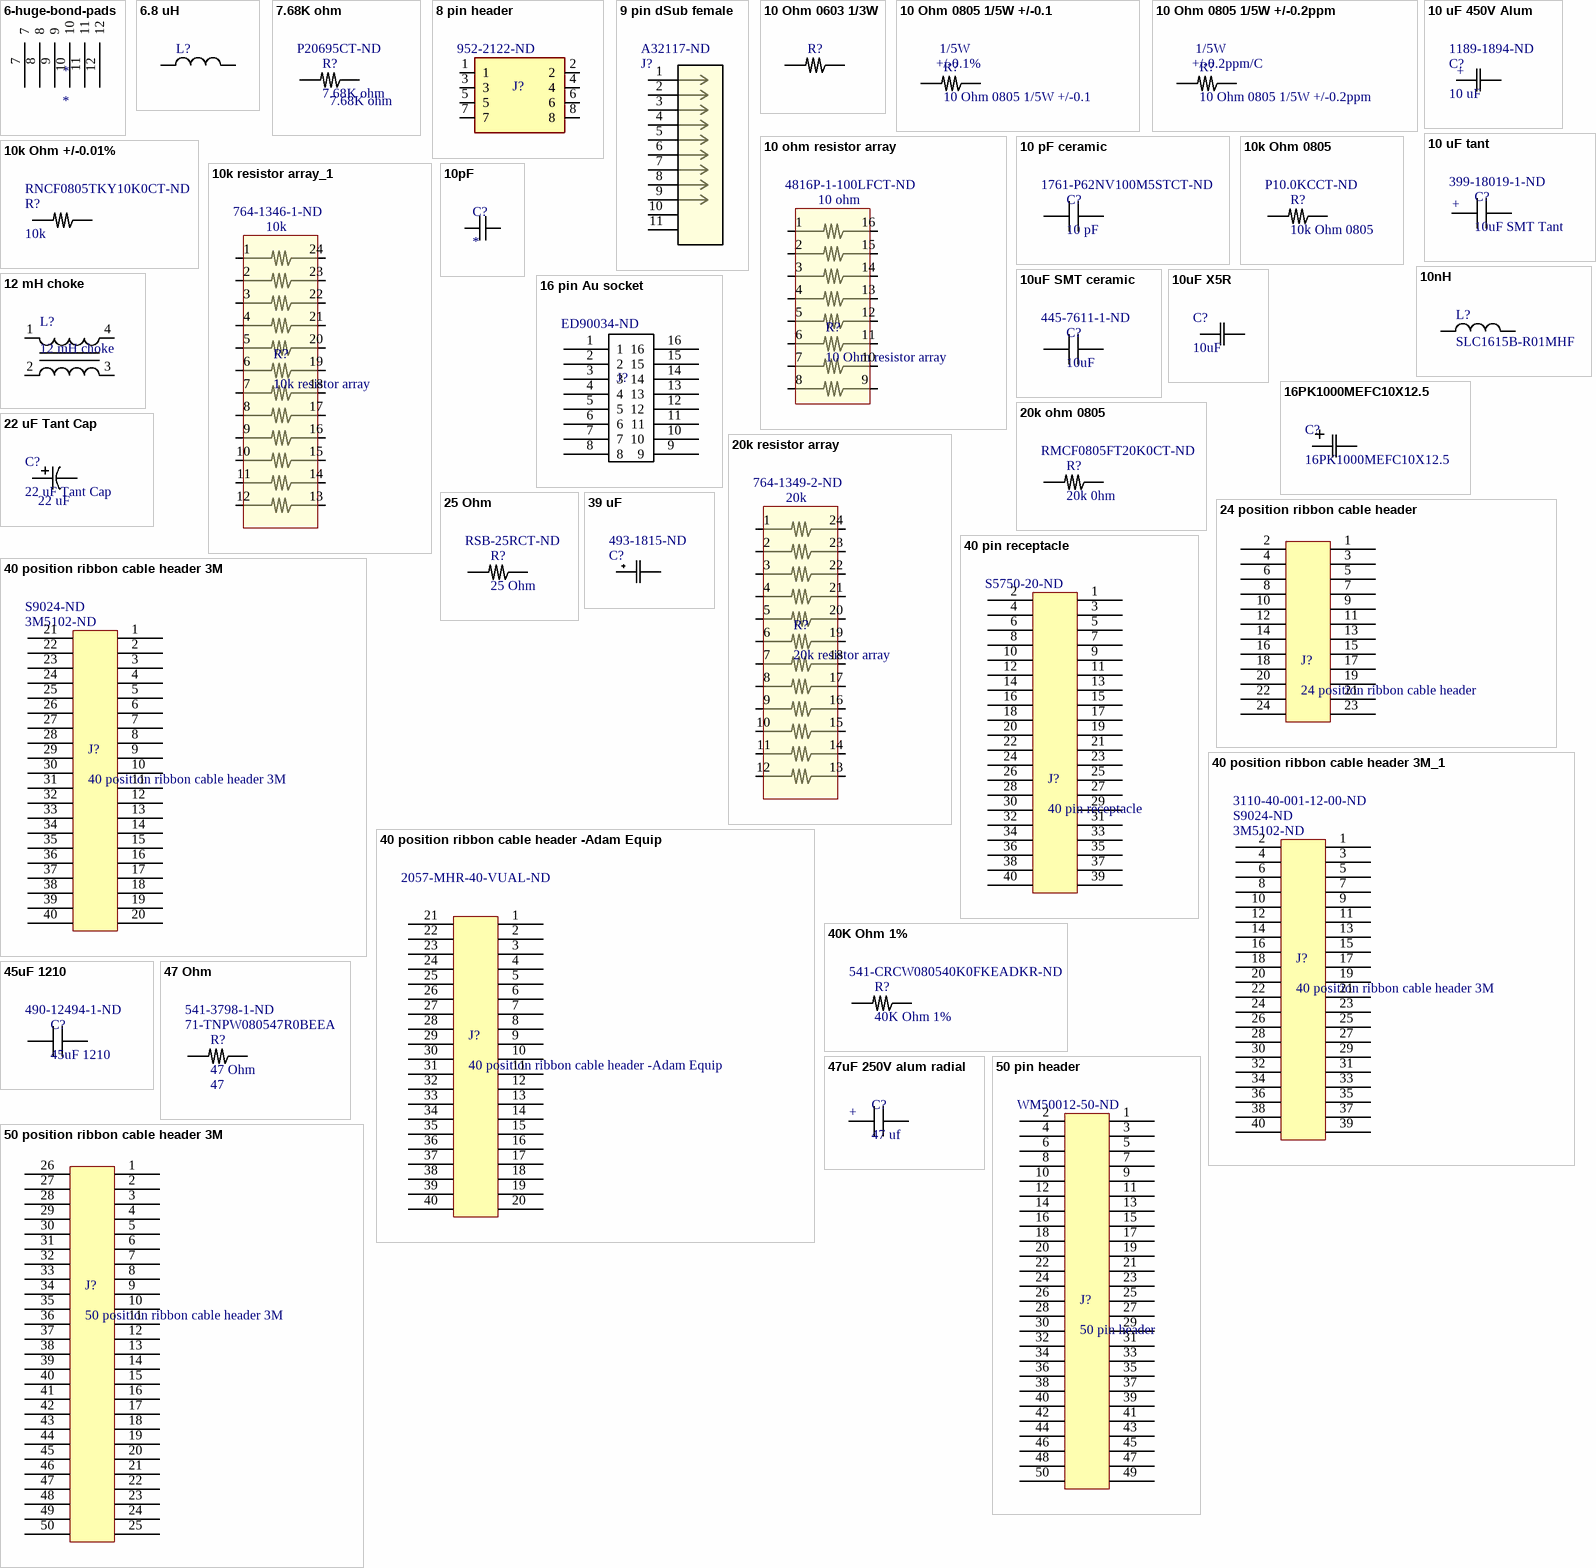
[diagram p2: symbols 6-huge-bond-pads to 50 position ribbon cable header 3M]

## 6-huge-bond-pads
designator *
footprint 6-huge-bond-pads
pins: 7, 8, 9, 10, 11, 12

## 6.8 uH
designator L?
6.8 µH Shielded Multilayer Inductor 550 mA 250mOhm 0805 (2012 Metric); Supplier 1: Digi-Key; Supplier Part Number 1: 445-6761-1-ND
footprint 6-0805 (Chip Resistor; Body 2 x 1.2 mm (LxW typ))
pins: 1, 2

## 7.68K ohm
designator R?  Supplier Part Number 1: P20695CT-ND
RES SMD 7.68K OHM 0.1% 1/4W 0805; Supplier 1: Digi-Key
footprint 6-0805 (Chip Resistor; Body 2 x 1.2 mm (LxW typ))
pins: 1, 2

## 8 pin header
designator J?  Supplier Part Number 1: 952-2122-ND
CONN HEADER VERT 8POS 2.54MM; MF: Harwin Inc.; MP: M20-9980445; Value: *; SnapEDA_Link: https://www.snapeda.com/parts/M20-9980445/Harwin%20Inc./view-part/282788/?ref=snap; Package: None; Availability: Unavailable; Price: None; Supplier 1: Digi-Key
footprint 8 pin header
pins: 1, 2, 3, 4, 5, 6, 7, 8

## 9 pin dSub female
designator J?  Supplier Part Number 1: A32117-ND
9 Position D-Sub Receptacle, Female Sockets Connector; Mfr_Name: TE Connectivity; Manufacturer_Part_Number: 5747844-4; Type: DEV; Copyright: Copyright (C) 2022 Ultra Librarian. All rights reserved.; Digi-Key_Part_Number_1: A32117-ND; RefDes: RefDes; Supplier 1: Digi-Key
footprint CONN9_5747844-4_TEC
pins: 1, 2, 3, 4, 5, 6, 7, 8, 9, 10, 11

## 10 Ohm 0603 1/3W
designator R?
10 Ohms ±1% 0.333W, 1/3W Chip Resistor 0603 (1608 Metric) Automotive AEC-Q200, Pulse Withstanding Thick Film; Supplier 1: DigiKey; Supplier 2: Mouser; Supplier Part Number 1: 541-10.0SCT-ND; Supplier Part Number 2: 71-CRCW060310R0FKEAH
footprint 3-0603 (Chip Resistor; Body 1.6 x 0.9 mm (LxW typ))
pins: 1, 2

## 10 Ohm 0805 1/5W +/-0.1
designator R?
RES SMD 10 OHM 0.1% 1/4W 0805; Supplier 1: Newark; Supplier 2: Digi-Key; Supplier Part Number 1: 71M1247; Supplier Part Number 2: A110351CT-ND
footprint 6-0805 (Chip Resistor; Body 2 x 1.2 mm (LxW typ))
pins: 1, 2
text: 1/5W; +/-0.1%

## 10 Ohm 0805 1/5W +/-0.2ppm
designator R?
10 kOhms ±0.01% 0.2W, 1/5W Chip Resistor 0805 (2012 Metric) Moisture Resistant, Non-Inductive Metal Foil; Supplier 1: Mouser; Supplier Part Number 1: 71-Y162410K0000T9R
footprint 6-0805 (Chip Resistor; Body 2 x 1.2 mm (LxW typ))
pins: 1, 2
text: 1/5W; +/-0.2ppm/C

## 10 ohm resistor array
designator R?, comment 10 Ohm resistor array  Supplier Part Number 1: 4816P-1-100LFCT-ND
RES ARRAY 8 RES 10 OHM 16SOIC; Supplier 1: Digi-Key
footprint SOIC16_4X10_ONS
pins: 1, 2, 3, 4, 5, 6, 7, 8, 9, 10, 11, 12, 13, 14, 15, 16
text: 10 ohm

## 10 pF ceramic
designator C?, comment 10 pF  Supplier Part Number 1: 1761-P62NV100M5STCT-ND
BROADBAND CAPACITOR, 10 PF, 0602; Supplier 1: DigiKey
footprint 3-0603 (Chip Resistor; Body 1.6 x 0.9 mm (LxW typ))
pins: 1, 2

## 10 uF 450V Alum
designator C?, comment 10 uF  Supplier Part Number 1: 1189-1894-ND
CAP ALUM 10UF 20% 450V RADIAL; Mfr_Name: ILLINOIS CAPACITOR; Manufacturer_Part_Number: 106CKS450MLU; Type: DEV; Copyright: Copyright (C) 2023 Ultra Librarian. All rights reserved.; Digi-Key_Part_Number_1: 1572-1650-ND; RefDes: RefDes; Supplier 1: Digi-Key
footprint CAP_106CKS450MLU_ILC
pins: 1, 2
text: +

## 10 uF tant
designator C?, comment 10uF SMT Tant  Supplier Part Number 1: 399-18019-1-ND
CAP TANT 10UF 10% 20V 1206; Supplier 1: Digi-Key
footprint 8-1206 - Tant (Chip Resistor; Body 3.1 x 1.6 mm (LxW typ))
pins: 1, 2
text: +

## 10k Ohm 0805
designator R?  Supplier Part Number 1: P10.0KCCT-ND
RES SMD 10K OHM 1% 1/8W 0805; Supplier 1: Digi-Key
footprint 6-0805 (Chip Resistor; Body 2 x 1.2 mm (LxW typ))
pins: 1, 2

## 10k Ohm +/-0.01%
designator R?, comment 10k  Supplier Part Number 1: RNCF0805TKY10K0CT-ND
10 kOhms ±0.01% 0.125W, 1/8W Chip Resistor 0805 (2012 Metric) Automotive AEC-Q200 Thin Film. +/-5ppm/C; Manufacturer_Part_Number: RNCP0805FTD1K00; Vendor: Stackpole International; Built_By: EMA_UL_Team; Copyright: Copyright (C) 2018 Accelerated Designs. All rights reserved; RefDes: RefDes; Type: DEV; Value: Value; Supplier 1: Digi-Key
footprint 6-0805 (Chip Resistor; Body 2 x 1.2 mm (LxW typ))
pins: 1, 2

## 10k resistor array_1
designator R?, comment 10k resistor array  Supplier Part Number 1: 764-1346-1-ND
RES ARRAY 12RES 10K OHM 24SSOP; Supplier 1: Digi-Key
footprint SSOP24
pins: 1, 2, 3, 4, 5, 6, 7, 8, 9, 10, 11, 12, 13, 14, 15, 16, 17, 18, 19, 20, 21, 22, 23, 24
text: 10k

## 10nH
designator L?, comment SLC1615B-R01MHF
10 nH Inductor 25 A 0.22mOhm 2-SMD, J-Lead
footprint ferrite
pins: 1, 2

## 10pF
designator C?
10 pF ±1% 50V Ceramic Capacitor C0G, NP0 0402 (1005 Metric); Manufacturer_Part_Number: GRM1555C1H100FA01D; Mfr_name: Samsung Electro-Mechanics; MF: {'manufacturer': u'Murata'}; Desc_Value: CAP CER 10UF 10V X5R 0402; Package: 0402; Price: None; Value: *; Availability: Unavailable; Supplier 1: Digi-Key; Supplier Part Number 1: 490-6186-1-ND; Vendor URL: https://www.digikey.com/en/products/detail/samsung-electro-mechanics/CL05A106MP5NUNC/3887108; Mounting Type: SMT
footprint CAPC1005X55N
pins: 1, 2

## 10uF SMT ceramic
designator C?, comment 10uF  Supplier Part Number 1: 445-7611-1-ND
CAP CER 10UF 16V X6S 0805; Supplier 1: Digi-Key
footprint 6-0805 (Chip Resistor; Body 2 x 1.2 mm (LxW typ))
pins: 1, 2

## 10uF X5R
designator C?, comment 10uF
10 µF ±20% 10V Ceramic Capacitor X5R 0402 (1005 Metric); Mfr_Name: Samsung Electro-Mechanics; Manufacturer_Part_Number: CL05A106MP5NUNC; Type: DEV; Desc_Value: CAP CER 10UF 10V X5R 0402; Copyright: Copyright (C) 2023 Ultra Librarian. All rights reserved.; RefDes: RefDes; Vendor URL: https://www.digikey.com/en/products/detail/samsung-electro-mechanics/CL05A106MP5NUNC/3887108; Package: 0402; Mounting Type: SMT; Supplier 1: Digi-Key; Supplier Part Number 1: 1276-1450-1-ND
footprint 0402 - cap (0402 footprint)
pins: 1, 2

## 12 mH choke
designator L?
12 mH @ 10 kHz 2 Line Common Mode Choke Through Hole 10A DCR 15mOhm; Supplier 1: Digi-Key; Supplier Part Number 1: 732-5597-ND
footprint CMC 12MH
pins: 1, 2, 3, 4

## 16 pin Au socket
designator J?  Supplier Part Number 1: ED90034-ND  (hidden comment: 16 pin Au socket)
16 (2 x 8) Pos DIP, 0.3" (7.62mm) Row Spacing Socket Gold Through Hole; Supplier 1: Digi-Key
footprint DIP-16 100mil (DIP-19 100 mil x 300wide)
pins: 1, 2, 3, 4, 5, 6, 7, 8, 9, 10, 11, 12, 13, 14, 15, 16

## 16PK1000MEFC10X12.5
designator C?
No Description Available; Mfr_Name: Rubycon; Type: DEV; Copyright: Copyright (C) 2024 Ultra Librarian. All rights reserved.; Manufacturer_Part_Number: 16PK1000MEFC10X12.5; RefDes: RefDes
footprint CAP_PKPZ_10X12P5_LOW_RUB
pins: 1, 2

## 20k ohm 0805
designator R?, comment 20k 0hm  Supplier Part Number 1: RMCF0805FT20K0CT-ND
RES 20K OHM 1% 1/8W 0805; Supplier 1: Digi-Key
footprint 6-0805 (Chip Resistor; Body 2 x 1.2 mm (LxW typ))
pins: 1, 2

## 20k resistor array
designator R?  Supplier Part Number 1: 764-1349-2-ND
RES ARRAY 12RES 20K OHM 24SSOP; Supplier 1: Digi-Key
footprint SSOP24
pins: 1, 2, 3, 4, 5, 6, 7, 8, 9, 10, 11, 12, 13, 14, 15, 16, 17, 18, 19, 20, 21, 22, 23, 24
text: 20k

## 22 uF Tant Cap
designator C?  value 22 uF
CAP TANT 22UF 10% 16V RADIAL; Manufacturer_Part_Number: T350F226K016AT; Vendor: KEMET; Built_By: EMA_UL_Team; Type: DEV; Copyright: Copyright (C) 2018 Accelerated Designs. All rights reserved; RefDes: RefDes; Supplier 1: Digi-Key; Supplier Part Number 1: 399-3574-ND
footprint CAP_T350F
pins: 1, 2

## 24 position ribbon cable header
designator J?
ribbon cable header, 0.79mil / numbered across, 24 position; Supplier 1: Digi-Key; Supplier 2: Digi-Key; Supplier 3: Digi-Key; Supplier Part Number 1: 2057-2BHR-24-VUA-ND; Supplier Part Number 2: 2057-2FCS-24-SG-ND; Supplier Part Number 3: WM17470-ND
footprint 24 position 79x79mil - male (24 position 79x79mil ribbon cable header)
pins: 1, 2, 3, 4, 5, 6, 7, 8, 9, 10, 11, 12, 13, 14, 15, 16, 17, 18, 19, 20, 21, 22, 23, 24

## 25 Ohm
designator R?  Supplier Part Number 1: RSB-25RCT-ND
RES 25 OHM 3W 1% WW AXIAL; Supplier 1: Digi-Key
footprint thruhole resistor
pins: 1, 2

## 39 uF
designator C?, comment Supplier Part Number 1: 493-1815-ND  (hidden comment: UPM1E390MDD)
CAP ALUM 39UF 20% 25V RADIAL; Manufacturer_Part_Number: UPW1E390MDD6; Vendor: Nichicon; Built_By: EMA_Cory; SourceLibrary: Nichicon_2019-09-13; Type: DEV; Copyright: Copyright (C) 2018 Accelerated Designs. All rights reserved; RefDes: RefDes; Supplier 1: Digi-Key
footprint CAP_RN_6P3X7_NCH
pins: 1, 2

## 40 pin receptacle
designator J?  Supplier Part Number 1: S5750-20-ND
40 pin female socket; Supplier 1: Digi-Key
footprint 40 position 79x79mil - duplicate1 (40 position 79x79mil)
pins: 1, 2, 3, 4, 5, 6, 7, 8, 9, 10, 11, 12, 13, 14, 15, 16, 17, 18, 19, 20, 21, 22, 23, 24, 25, 26, 27, 28, 29, 30, 31, 32, 33, 34, 35, 36, 37, 38, 39, 40

## 40 position ribbon cable header 3M
designator J?  Supplier Part Number 1: 3M5102-ND  Supplier Part Number 2: S9024-ND
ribbon cable header, 0.79mil; Supplier 1: Digi-Key; Supplier 2: Digi-Key
footprint 40 position 79x79mil - male (40 position 79x79mil)
pins: 1, 2, 3, 4, 5, 6, 7, 8, 9, 10, 11, 12, 13, 14, 15, 16, 17, 18, 19, 20, 21, 22, 23, 24, 25, 26, 27, 28, 29, 30, 31, 32, 33, 34, 35, 36, 37, 38, 39, 40

## 40 position ribbon cable header 3M_1
designator J?, comment 40 position ribbon cable header 3M  Supplier Part Number 1: 3M5102-ND  Supplier Part Number 2: S9024-ND  Supplier Part Number 3: 3110-40-001-12-00-ND
ribbon cable header, 0.79mil / numbered across; Supplier 1: Digi-Key; Supplier 2: Digi-Key; Supplier 3: Digi-Key
footprint 40 position 79x79mil - male (40 position 79x79mil)
pins: 1, 2, 3, 4, 5, 6, 7, 8, 9, 10, 11, 12, 13, 14, 15, 16, 17, 18, 19, 20, 21, 22, 23, 24, 25, 26, 27, 28, 29, 30, 31, 32, 33, 34, 35, 36, 37, 38, 39, 40

## 40 position ribbon cable header -Adam Equip
designator J?  Supplier Part Number 1: 2057-MHR-40-VUAL-ND
CONN HEADER VERT 40POS 2.54MM - latching ribbon cable header; Supplier 1: Digi-Key
footprint 40 position 100x100mil
pins: 1, 2, 3, 4, 5, 6, 7, 8, 9, 10, 11, 12, 13, 14, 15, 16, 17, 18, 19, 20, 21, 22, 23, 24, 25, 26, 27, 28, 29, 30, 31, 32, 33, 34, 35, 36, 37, 38, 39, 40

## 40K Ohm 1%
designator R?  Supplier Part Number 1: 541-CRCW080540K0FKEADKR-ND
40K Ohm 1% 1/8W 0805; Supplier 1: Digi-Key
footprint 6-0805 (Chip Resistor; Body 2 x 1.2 mm (LxW typ))
pins: 1, 2

## 45uF 1210
designator C?  Supplier Part Number 1: 490-12494-1-ND
CAP CER 47UF 16V X6S 1210; Supplier 1: Digi-Key
footprint 1210-GENERIC
pins: 1, 2

## 47 Ohm
designator R?  R: 47  Supplier Part Number 1: 71-TNPW080547R0BEEA  Supplier Part Number 2: 541-3798-1-ND
RES 47 OHM 0.1% 1/8W 0805; Supplier 1: Mouser; Supplier 2: Digi-Key
simulation model Model Name (Model Description)
footprint 6-0805 (Chip Resistor; Body 2 x 1.2 mm (LxW typ))
pins: 1, 2

## 47uF 250V alum radial
designator C?, comment 47 uf
CAP ALUM 47UF 20% 250V RADIAL; Supplier 1: Digi-Key; Supplier Part Number 1: 493-5873-ND
footprint thruhole cap 0.197" (radial cap)
pins: 1, 2
text: +

## 50 pin header
designator J?  Supplier Part Number 1: WM50012-50-ND
CONN HEADER VERT 50POS 2.54MM; Supplier 1: Digi-Key
footprint 50 pin header 0.100x0.100 (thro hole)
pins: 1, 2, 3, 4, 5, 6, 7, 8, 9, 10, 11, 12, 13, 14, 15, 16, 17, 18, 19, 20, 21, 22, 23, 24, 25, 26, 27, 28, 29, 30, 31, 32, 33, 34, 35, 36, 37, 38, 39, 40, 41, 42, 43, 44, 45, 46, 47, 48, 49, 50

## 50 position ribbon cable header 3M
designator J?
50 pin ribbon header 0.079"; Supplier 1: Digi-Key; Supplier Part Number 1: 3M5113-ND
footprint 50 position 79x79mil
pins: 1, 2, 3, 4, 5, 6, 7, 8, 9, 10, 11, 12, 13, 14, 15, 16, 17, 18, 19, 20, 21, 22, 23, 24, 25, 26, 27, 28, 29, 30, 31, 32, 33, 34, 35, 36, 37, 38, 39, 40, 41, 42, 43, 44, 45, 46, 47, 48, 49, 50

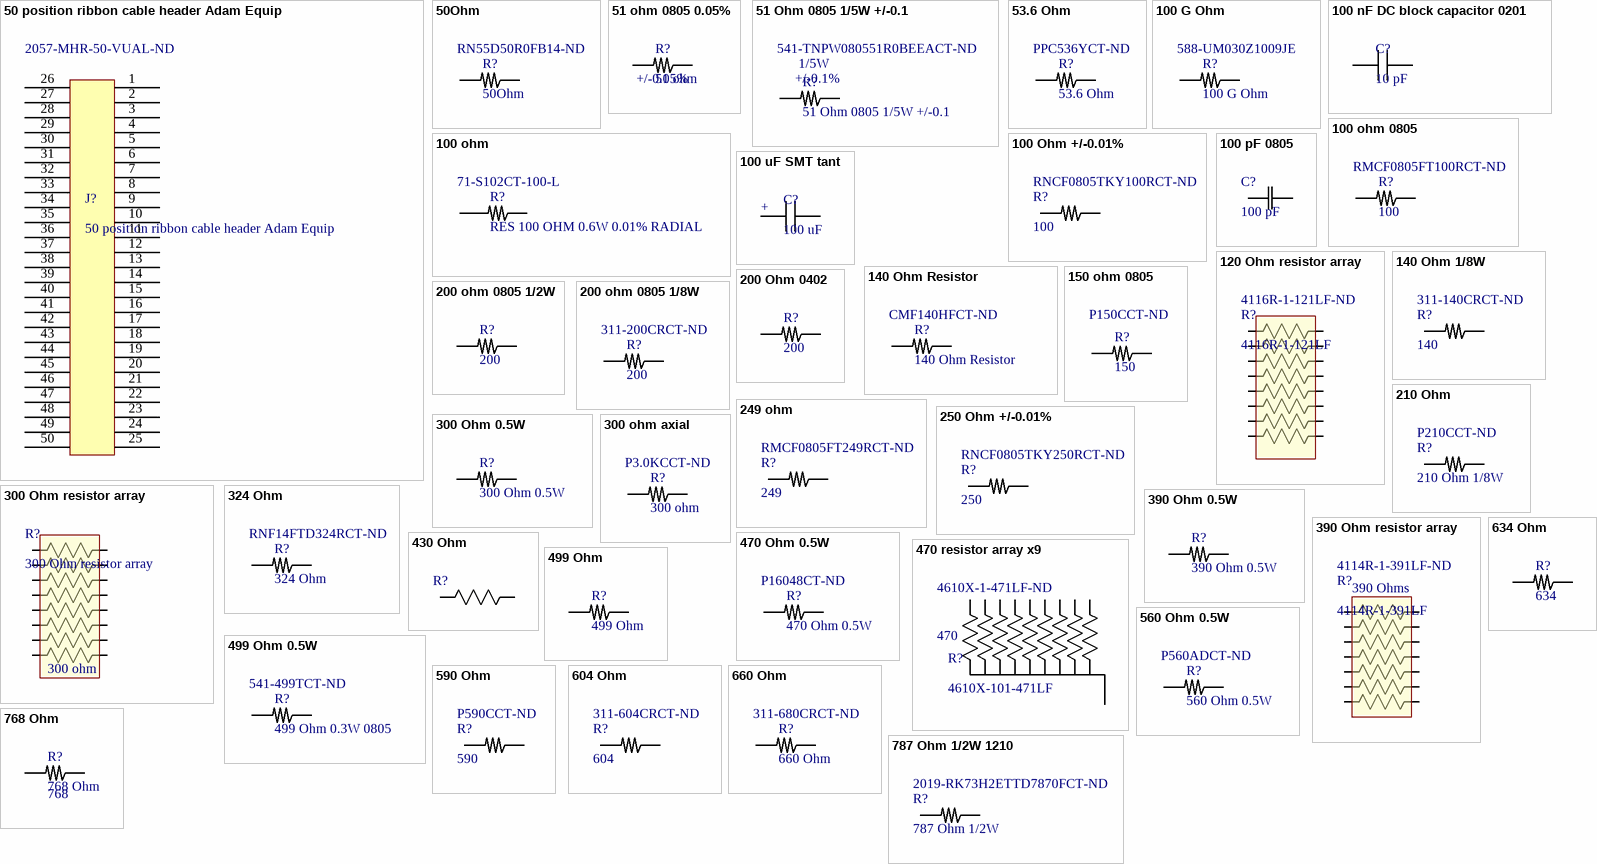
[diagram p3: symbols 50 position ribbon cable header Adam Equip to 787 Ohm 1/2W 1210]

## 50 position ribbon cable header Adam Equip
designator J?  Supplier Part Number 1: 2057-MHR-50-VUAL-ND
50 pin ribbon header 0.100"; Supplier 1: Digi-Key
footprint 50 position 100x100mil
pins: 1, 2, 3, 4, 5, 6, 7, 8, 9, 10, 11, 12, 13, 14, 15, 16, 17, 18, 19, 20, 21, 22, 23, 24, 25, 26, 27, 28, 29, 30, 31, 32, 33, 34, 35, 36, 37, 38, 39, 40, 41, 42, 43, 44, 45, 46, 47, 48, 49, 50

## 50Ohm
designator R?  Supplier Part Number 1: RN55D50R0FB14-ND
RES 50 OHM 1/8W 1% AXIAL; Supplier 1: Digi-Key
footprint thruhole resistor
pins: 1, 2

## 51 ohm 0805 0.05%
designator R?, comment 51 ohm
RES SMD 51 OHM 0.05% 1/8W 0805; Supplier 1: Digi-Key; Supplier Part Number 1: RG20N51WCT-ND
footprint 6-0805 (Chip Resistor; Body 2 x 1.2 mm (LxW typ))
pins: 1, 2
text: +/-0.05%

## 51 Ohm 0805 1/5W +/-0.1
designator R?  Supplier Part Number 1: 541-TNPW080551R0BEEACT-ND
RES 51 OHM 0.1% 1/8W 0805; Supplier 1: Digi-Key
footprint 6-0805 (Chip Resistor; Body 2 x 1.2 mm (LxW typ))
pins: 1, 2
text: 1/5W; +/-0.1%

## 53.6 Ohm
designator R?  Supplier Part Number 1: PPC536YCT-ND
RES 536 OHM 0.4W 1% AXIAL; Supplier 1: Digi-Key
footprint thruhole resistor
pins: 1, 2

## 100 G Ohm
designator R?  Supplier Part Number 1: 588-UM030Z1009JE
Thick Film Resistors - Through Hole 100G Ohms 10KV 5%; Supplier 1: Mouser
footprint thruhole resistor - wide (thruhole resistor)
pins: 1, 2

## 100 nF DC block capacitor 0201
designator C?, comment 10 pF
BROADBAND CAPACITOR, 100 nF, 0201
footprint 0201-capacitor
pins: 1, 2

## 100 ohm
designator R?, comment RES 100 OHM 0.6W 0.01% RADIAL  Supplier Part Number 1: 71-S102CT-100-L
RES 100 OHM 0.6W 0.01% RADIAL - precision; Supplier 1: Mouser
footprint thruhole resistor
pins: 1, 2

## 100 ohm 0805
designator R?, comment 100  Supplier Part Number 1: RMCF0805FT100RCT-ND
RES 100 OHM 1% 1/8W 0805; Supplier 1: Digi-Key
footprint 6-0805 (Chip Resistor; Body 2 x 1.2 mm (LxW typ))
pins: 1, 2

## 100 Ohm +/-0.01%
designator R?, comment 100  Supplier Part Number 1: RNCF0805TKY100RCT-ND
RES 100 Ohms ±0.01% 0.125W, 1/8W Chip Resistor 0805+/-5ppm/C; Manufacturer_Part_Number: RNCP0805FTD1K00; Vendor: Stackpole International; Built_By: EMA_UL_Team; Copyright: Copyright (C) 2018 Accelerated Designs. All rights reserved; RefDes: RefDes; Type: DEV; Value: Value; Supplier 1: Digi-Key
footprint 6-0805 (Chip Resistor; Body 2 x 1.2 mm (LxW typ))
pins: 1, 2

## 100 pF 0805
designator C?, comment 100 pF
CAP CER 100PF 100V C0G/NP0 0805; Manufacturer_Part_Number: CL21C101JC61PNC; Vendor: Samsung; Built_By: EMA_UL_Team; Type: DEV; Copyright: Copyright (C) 2018 Accelerated Designs. All rights reserved; RefDes: RefDes; Value: Value; Supplier 1: Digi-Key; Supplier Part Number 1: 1276-2569-1-ND
footprint 0805 (0805 footprint)
pins: 1, 2

## 100 uF SMT tant
designator C?, comment 100 uF
CAP TANT 100UF 20% 6.3V 0805; Supplier 1: Digi-Key; Supplier Part Number 1: 718-1607-1-ND
footprint 6-0805 - tant (Chip Cap tant; Body 2 x 1.2 mm (LxW typ))
pins: 1, 2
text: +

## 120 Ohm resistor array
designator R?, comment 4116R-1-121LF  Supplier Part Number 1: 4116R-1-121LF-ND
RES ARRAY 8 RES 120 OHM 16DIP; Vendor: Bourns Electronics; Built_By: EMA_UL_Team; Manufacturer_Part_Number: 4116R-1-121LF; Copyright: Copyright (C) 2018 Accelerated Designs. All rights reserved; RefDes: RefDes; Type: DEV; Value: Value; Supplier 1: Digi-Key
footprint DIP16_IL
pins: 1, 2, 3, 4, 5, 6, 7, 8, 9, 10, 11, 12, 13, 14, 15, 16

## 140 Ohm 1/8W
designator R?, comment 140  Supplier Part Number 1: 311-140CRCT-ND
RES 140 OHM 1% 1/8W 0805; Manufacturer_Part_Number: RNCP0805FTD1K00; Vendor: Stackpole International; Built_By: EMA_UL_Team; Copyright: Copyright (C) 2018 Accelerated Designs. All rights reserved; RefDes: RefDes; Type: DEV; Value: Value; Supplier 1: Digi-Key
footprint 6-0805 (Chip Resistor; Body 2 x 1.2 mm (LxW typ))
pins: 1, 2

## 140 Ohm Resistor
designator R?  Supplier Part Number 1: CMF140HFCT-ND
Resistor 140 Ohm; Supplier 1: Digi-Key
footprint thruhole resistor
pins: 1, 2

## 150 ohm 0805
designator R?, comment 150  Supplier Part Number 1: P150CCT-ND
Resistor 150 Ohm 0805; Supplier 1: Digi-Key
footprint 6-0805 (Chip Resistor; Body 2 x 1.2 mm (LxW typ))
pins: 1, 2

## 200 Ohm 0402
designator R?, comment 200
200 Ohms ±1% 0.1W, 1/10W Chip Resistor 0402 (1005 Metric) Automotive AEC-Q200 Thick Film; Manufacturer_Part_Number: ERJ-2RKF2000X; Mfr_name: Panasonic Electronic Components; MF: {'manufacturer': u'Panasonic Electronic'}; Desc_Value: RES SMD 200 OHM 1% 1/10W 0402; Package: 0402; Price: None; Value: *; Availability: Unavailable; Supplier 1: Digi-Key; Supplier Part Number 1: P200LCT-ND; Mounting Type: SMT; Vendor URL: https://www.digikey.com/en/products/detail/panasonic-electronic-components/ERJ-2RKF2000X/192215
footprint RES_ERJ2RKF2000X
pins: 1, 2

## 200 ohm 0805 1/2W
designator R?, comment 200
Resistor 200 Ohm 0805 1/2 W; Supplier 1: Digi-Key; Supplier Part Number 1: P200ADTR-ND
footprint 6-0805 (Chip Resistor; Body 2 x 1.2 mm (LxW typ))
pins: 1, 2

## 200 ohm 0805 1/8W
designator R?, comment 200  Supplier Part Number 1: 311-200CRCT-ND
Resistor 200 Ohm 0805 1/8 W; Supplier 1: Digi-Key
footprint 6-0805 (Chip Resistor; Body 2 x 1.2 mm (LxW typ))
pins: 1, 2

## 210 Ohm
designator R?, comment 210 Ohm 1/8W  Supplier Part Number 1: P210CCT-ND
210 ohm resistor 0805; Manufacturer_Part_Number: RNCP0805FTD1K00; Vendor: Stackpole International; Built_By: EMA_UL_Team; Copyright: Copyright (C) 2018 Accelerated Designs. All rights reserved; RefDes: RefDes; Type: DEV; Value: Value; Supplier 1: Digi-Key
footprint 6-0805 (Chip Resistor; Body 2 x 1.2 mm (LxW typ))
pins: 1, 2

## 249 ohm
designator R?, comment 249  Supplier Part Number 1: RMCF0805FT249RCT-ND
249 resistor 0805; Manufacturer_Part_Number: RNCP0805FTD1K00; Vendor: Stackpole International; Built_By: EMA_UL_Team; Copyright: Copyright (C) 2018 Accelerated Designs. All rights reserved; RefDes: RefDes; Type: DEV; Value: Value; Supplier 1: Digi-Key
footprint 6-0805 (Chip Resistor; Body 2 x 1.2 mm (LxW typ))
pins: 1, 2

## 250 Ohm +/-0.01%
designator R?, comment 250  Supplier Part Number 1: RNCF0805TKY250RCT-ND
250 Ohms ±0.01% 0.125W, 1/8W Chip Resistor 0805+/-5ppm/C; Manufacturer_Part_Number: RNCP0805FTD1K00; Vendor: Stackpole International; Built_By: EMA_UL_Team; Copyright: Copyright (C) 2018 Accelerated Designs. All rights reserved; RefDes: RefDes; Type: DEV; Value: Value; Supplier 1: Digi-Key
footprint 6-0805 (Chip Resistor; Body 2 x 1.2 mm (LxW typ))
pins: 1, 2

## 300 Ohm 0.5W
designator R?
300 Ohm 0.5W 0805; Supplier 1: Digi-Key; Supplier Part Number 1: P16069CT-ND
footprint 6-0805 (Chip Resistor; Body 2 x 1.2 mm (LxW typ))
pins: 1, 2

## 300 ohm axial
designator R?, comment 300 ohm  Supplier Part Number 1: P3.0KCCT-ND
RES 300 OHM 5% 1/8W axial; Supplier 1: Digi-Key
footprint thruhole_resistor
pins: 1, 2

## 300 Ohm resistor array
designator R?
300 Ohm x8 resistor; Manufacturer_Part_Number: 4116R-1-121LF; Vendor: Bourns Electronics; Built_By: EMA_UL_Team; Copyright: Copyright (C) 2018 Accelerated Designs. All rights reserved; RefDes: RefDes; Type: DEV; Value: Value; Supplier 1: Digi-Key; Supplier Part Number 1: 4116R-1-301LF-ND
footprint DIP16_IL
pins: 1, 2, 3, 4, 5, 6, 7, 8, 9, 10, 11, 12, 13, 14, 15, 16
text: 300 ohm

## 324 Ohm
designator R?  Supplier Part Number 1: RNF14FTD324RCT-ND
Resistor 324Ohm; Supplier 1: Digi-Key
footprint thruhole resistor
pins: 1, 2

## 390 Ohm 0.5W
designator R?
390 Ohm 0.5W 0805; Supplier 1: Digi-Key; Supplier Part Number 1: 541-CRCW0805390RJNEAHPCT-ND
footprint 6-0805 (Chip Resistor; Body 2 x 1.2 mm (LxW typ))
pins: 1, 2

## 390 Ohm resistor array
designator R?, comment 4114R-1-391LF  Supplier Part Number 1: 4114R-1-391LF-ND
390 Ohm x7 resistor; Manufacturer_Part_Number: 4116R-1-121LF; Vendor: Bourns Electronics; Built_By: EMA_UL_Team; Copyright: Copyright (C) 2018 Accelerated Designs. All rights reserved; RefDes: RefDes; Type: DEV; Value: Value; Supplier 1: Digi-Key
footprint DIP14
pins: 1, 2, 3, 4, 5, 6, 7, 8, 9, 10, 11, 12, 13, 14
text: 390 Ohms

## 430 Ohm
designator R?  (value not drawn)
430 Ohm resistor 0805; Manufacturer_Part_Number: RNCP0805FTD1K00; Vendor: Stackpole International; Built_By: EMA_UL_Team; Copyright: Copyright (C) 2018 Accelerated Designs. All rights reserved; RefDes: RefDes; Type: DEV; Value: Value; Supplier 1: Digi-Key; Supplier Part Number 1: P430CCT-ND
footprint 6-0805 (Chip Resistor; Body 2 x 1.2 mm (LxW typ))
pins: 1, 2

## 470 Ohm 0.5W
designator R?  Supplier Part Number 1: P16048CT-ND
470 Ohm 0.5W 0805; Supplier 1: Digi-Key
footprint 6-0805 (Chip Resistor; Body 2 x 1.2 mm (LxW typ))
pins: 1, 2

## 470 resistor array x9
designator R?, comment 4610X-101-471LF  Supplier Part Number 1: 4610X-1-471LF-ND
RES ARRAY 9 RES 470 OHM 10SIP; Mfr_Name: Bourns Electronics; Manufacturer_Part_Number: 4611X-101-102LF; Copyright: Copyright (C) 2022 Ultra Librarian. All rights reserved.; Digi-Key_Part_Number_1: 4611X-101-102LF-ND; RefDes: RefDes; Type: DEV; Supplier 1: Digi-Key
footprint BO_4610X
pins: 1, 2, 3, 4, 5, 6, 7, 8, 9, 10
text: 470

## 499 Ohm
designator R?
Resistor 499 Ohm 0805; Supplier 1: Digi-Key; Supplier Part Number 1: 311-499CRCT-ND
footprint 6-0805 (Chip Resistor; Body 2 x 1.2 mm (LxW typ))
pins: 1, 2

## 499 Ohm 0.5W
designator R?, comment 499 Ohm 0.3W 0805  Supplier Part Number 1: 541-499TCT-ND
Supplier 1: Digi-Key
footprint 6-0805 (Chip Resistor; Body 2 x 1.2 mm (LxW typ))
pins: 1, 2

## 560 Ohm 0.5W
designator R?  Supplier Part Number 1: P560ADCT-ND
560 Ohm 0.5W 0805; Supplier 1: Digi-Key
footprint 6-0805 (Chip Resistor; Body 2 x 1.2 mm (LxW typ))
pins: 1, 2

## 590 Ohm
designator R?, comment 590  Supplier Part Number 1: P590CCT-ND
590 resistor 0805; Manufacturer_Part_Number: RNCP0805FTD1K00; Vendor: Stackpole International; Built_By: EMA_UL_Team; Copyright: Copyright (C) 2018 Accelerated Designs. All rights reserved; RefDes: RefDes; Type: DEV; Value: Value; Supplier 1: Digi-Key
footprint 6-0805 (Chip Resistor; Body 2 x 1.2 mm (LxW typ))
pins: 1, 2

## 604 Ohm
designator R?, comment 604  Supplier Part Number 1: 311-604CRCT-ND
604 resistor 0805; Manufacturer_Part_Number: RNCP0805FTD1K00; Vendor: Stackpole International; Built_By: EMA_UL_Team; Copyright: Copyright (C) 2018 Accelerated Designs. All rights reserved; RefDes: RefDes; Type: DEV; Value: Value; Supplier 1: Digi-Key
footprint 6-0805 (Chip Resistor; Body 2 x 1.2 mm (LxW typ))
pins: 1, 2

## 634 Ohm
designator R?, comment 634
634 Ohms ±1% 0.1W, 1/10W Chip Resistor 0402 (1005 Metric) Automotive AEC-Q200 Thick Film; Manufacturer_Part_Number: ERJ-2RKF6340X; Mfr_name: Panasonic Electronic Components; MF: {'manufacturer': u'Panasonic Electronic'}; Desc_Value: RES SMD 634 OHM 1% 1/10W 0402; Package: 0402; Price: None; Value: *; Availability: Unavailable; Supplier 1: Digi-Key; Supplier Part Number 1: P634LCT-ND; Vendor URL: https://www.digikey.com/en/products/detail/panasonic-electronic-components/ERJ-2RKF6340X/192437; Mounting Type: SMT
footprint RES_ERJ2RKF6340X
pins: 1, 2

## 660 Ohm
designator R?  Supplier Part Number 1: 311-680CRCT-ND
Resistor 660 Ohm 1/8W; Supplier 1: Digi-Key
footprint 6-0805 (Chip Resistor; Body 2 x 1.2 mm (LxW typ))
pins: 1, 2

## 768 Ohm
designator R?  R: 768
Resistor 768 Ohm; Supplier 1: Digi-Key; Supplier Part Number 1: 541-768CCT-ND
footprint 6-0805 (Chip Resistor; Body 2 x 1.2 mm (LxW typ))
pins: 1, 2

## 787 Ohm 1/2W 1210
designator R?, comment 787 Ohm 1/2W  Supplier Part Number 1: 2019-RK73H2ETTD7870FCT-ND
787 Ohm resistor 1210 1/2W; Manufacturer_Part_Number: RNCP0805FTD1K00; Vendor: Stackpole International; Built_By: EMA_UL_Team; Copyright: Copyright (C) 2018 Accelerated Designs. All rights reserved; RefDes: RefDes; Type: DEV; Value: Value; Supplier 1: Digi-Key
footprint 1210-GENERIC
pins: 1, 2

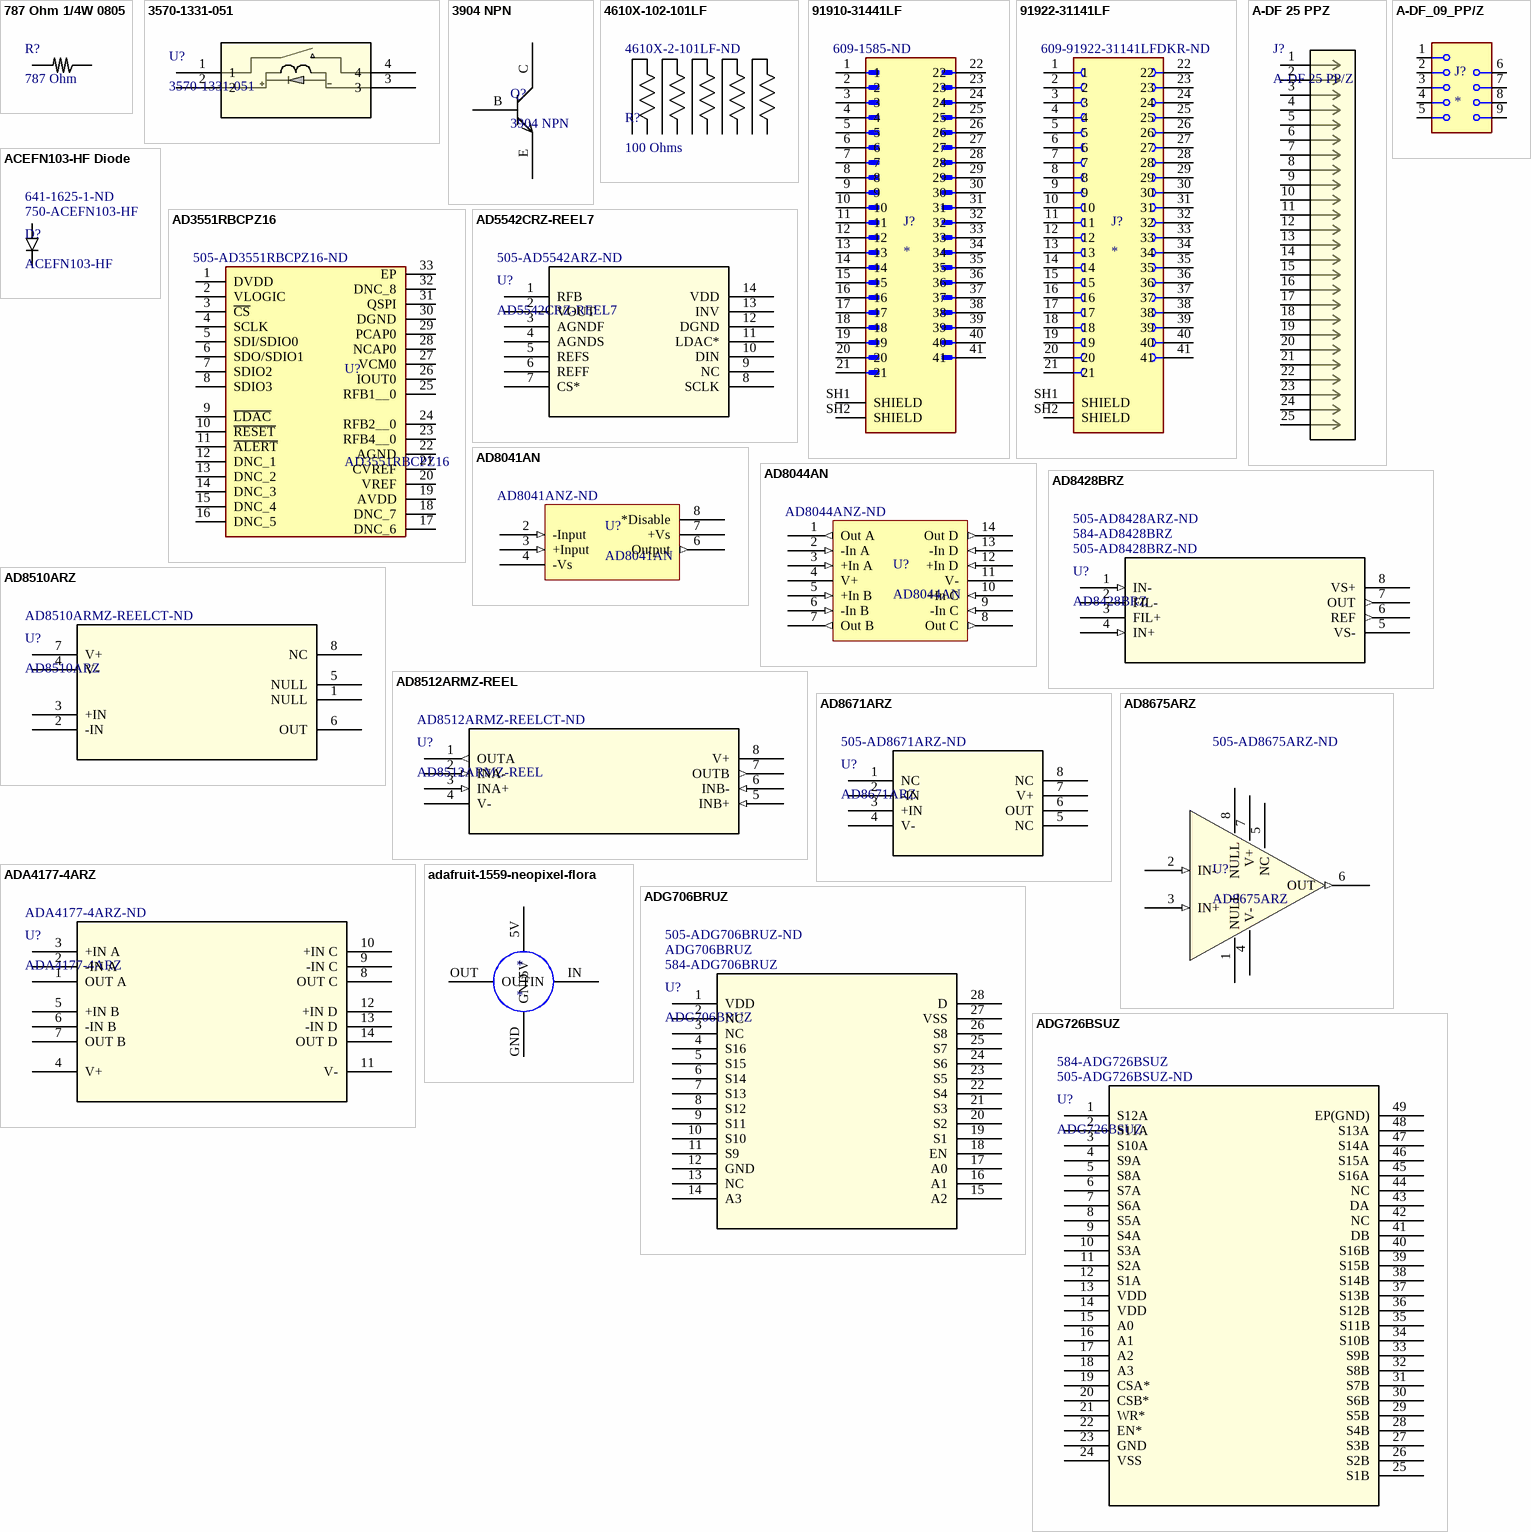
[diagram p4: symbols 787 Ohm 1/4W 0805 to ADG726BSUZ]

## 787 Ohm 1/4W 0805
designator R?, comment 787 Ohm
787 Ohm resistor 0805 1/4W; Manufacturer_Part_Number: RNCP0805FTD1K00; Vendor: Stackpole International; Built_By: EMA_UL_Team; Copyright: Copyright (C) 2018 Accelerated Designs. All rights reserved; RefDes: RefDes; Type: DEV; Value: Value; Supplier 1: Digi-Key; Supplier Part Number 1: P21007CT-ND
footprint 6-0805 (Chip Resistor; Body 2 x 1.2 mm (LxW typ))
pins: 1, 2